# Altium integrated library SM74611KTTR.IntLib: 1 symbol
Pins are listed as number, name and electrical type; pins without a type are passive.

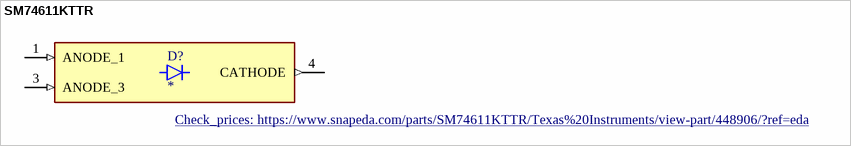
[diagram p0: symbol SM74611KTTR]

## SM74611KTTR
designator D?
0.5-V to 100-V smart bypass diode 3-DDPAK/TO-263 -40 to 125; MP: SM74611KTTR; MF: Texas Instruments; DigiKey-Purchase-URL: https://snapeda.com/shop?store=DigiKey&id=448906; Package: TO-263-3 Texas Instruments; Mouser-Purchase-URL: https://snapeda.com/shop?store=Mouser&id=448906; Value: *; Arrow_Asia-Purchase-URL: https://snapeda.com/shop?store=Arrow+Asia&id=448906; Availability: Good; Arrow_Electronics-Purchase-URL: https://snapeda.com/shop?store=Arrow+Electronics&id=448906; SnapEDA_Link: https://www.snapeda.com/parts/SM74611KTTR/Texas%20Instruments/view-part/448906/?ref=snap; Texas_Instruments-Purchase-URL: https://snapeda.com/shop?store=Texas+Instruments&id=448906; Price: None; Check_prices: https://www.snapeda.com/parts/SM74611KTTR/Texas%20Instruments/view-part/448906/?ref=eda
footprint TO254P1524X483-3N
pins: 1 ANODE_1 (in), 3 ANODE_3 (in), 4 CATHODE (out)